# Altium integrated library ZMM33B.IntLib: 1 symbol
Pins are listed as number, name and electrical type; pins without a type are passive.

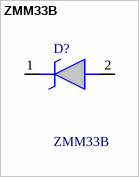
[diagram p0: symbol ZMM33B]

## ZMM33B
designator D?
SMD Planra Zener Diode; Manufacturer_Name: Diotec; Geometry.Height: 1.45mm; Manufacturer_Part_Number: ZMM33B; Mouser Part Number: 637-ZMM33B; Mouser Price/Stock: https://www.mouser.co.uk/ProductDetail/Diotec-Semiconductor/ZMM33B?qs=OlC7AqGiEDlS5hTI7j6ASg%3D%3D; Arrow Part Number: ZMM33B; Arrow Price/Stock: https://www.arrow.com/en/products/zmm33b/diotec-semiconductor-ag?utm_currency=USD&region=nac; Datasheet Link: *
footprint ZMM33B
pins: 1 K, 2 A